# EAGLE library part AD9283 (library ad9283)
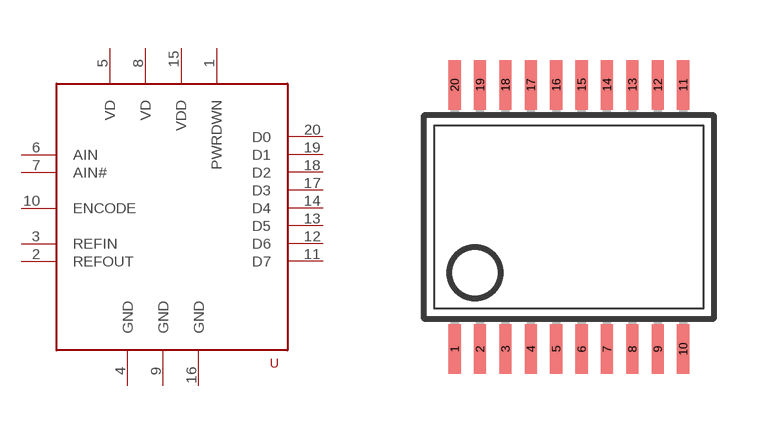
[diagram p0: symbol with the pads of SSOP20; footprint SSOP20]

Designator prefix -

## AD9283  [SSOP20]
1  PWRDWN  in
2  REFOUT  out
3  REFIN  in
4  GND  pwr
5  VD  pwr
6  AIN  in
7  AIN#  in
8  VD  pwr
9  GND  pwr
10  ENCODE  in
11  D7  out
12  D6  out
13  D5  out
14  D4  out
15  VDD  pwr
16  GND  pwr
17  D3  out
18  D2  out
19  D1  out
20  D0  out

## Footprint SSOP20 (pad centres in mm)
Small Shrink Outline Package
smd 0.305 x 1.245: 1 -2.857,-3.302; 2 -2.222,-3.302; 3 -1.587,-3.302; 4 -0.952,-3.302; 5 -0.317,-3.302; 6 0.318,-3.302; 7 0.953,-3.302; 8 1.588,-3.302; 9 2.223,-3.302; 10 2.858,-3.302; 11 2.858,3.302; 12 2.223,3.302; 13 1.588,3.302; 14 0.953,3.302; 15 0.318,3.302; 16 -0.317,3.302; 17 -0.952,3.302; 18 -1.587,3.302; 19 -2.222,3.302; 20 -2.857,3.302